# EAGLE library part 620107131822 (library WR-WTB)
WR-WTB 2.00 mm SMT Male Horizontal Shrouded Header Material Properties Insulator Material PA9T Insulator Flammability Rating UL94 V-0 Insulator Color Beige Contact Material Copper Alloy Contact Plating Tin Contact Type Stamped General Information Operating Temperature -40 up to +85 °C Working Voltage 100 V (AC) Withstanding Voltage 800 V (AC) Contact Resistance 20 mΩ RISO 1000 MΩ Certification cULus Approval E323964 UL Approval E323964 Packaging Properties Packaging Tape and Reel Details see: www.we-online.com/components/products/WTB_2_00_SMT_MALE_HORIZONTAL_SHROUDED_HEADER_6201XX131822 Updated by Ella 2023-07-05 2023 (C) Würth Elektronik
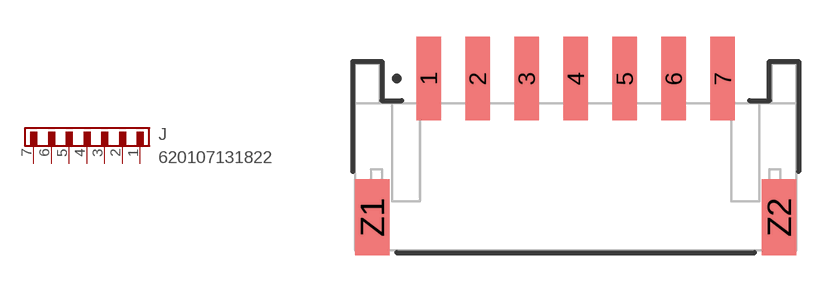
[diagram p50: symbol with the pads of 620107131822; footprint 620107131822]

Designator prefix J

## 620107131822 (CONTACT-RESISTANCE: 20mOhm; DATASHEET: https://www.we-online.com/redexpert/spec/620107131822?ae; GENDER: Male; IR: A; L: 18mm; MOUNT: SMT; PACKAGING: Tape and Reel; PART-NUMBER: 620107131822; PCB-CABLE-PANEL: PCB; PINS: 7; PITCH: 2mm; TYPE: Horizontal; VALUE: 620107131822; WORKING-VOLTAGE: 100V(AC))  [620107131822]
1  1  pas
2  2  pas
3  3  pas
4  4  pas
5  5  pas
6  6  pas
7  7  pas

## Footprint 620107131822 (pad centres in mm)
WR-WTB 2.00 mm SMT Male Horizontal Shrouded Header,7 Pins
smd 1 x 3.4: 1 -6,2.9; 2 -4,2.9; 3 -2,2.9; 4 0,2.9; 5 2,2.9; 6 4,2.9; 7 6,2.9
smd 1.4 x 3.1: Z1 -8.3,-2.75; Z2 8.3,-2.75